# Altium schematic symbol library AD823AARZ.SchLib: 1 symbol
Pins are listed as number, name and electrical type; pins without a type are passive.

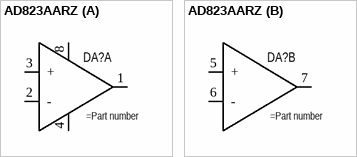
[diagram p0: symbol AD823AARZ]

## AD823AARZ
designator DA?
Wide Supply Dual, 17 MHz, Rail-to-Rail FET Input Amplifier
part A pins: 1 Out, 2 -, 3 +, 4 GND, 8 Vdd
part B pins: 5 +, 6 -, 7 Out